# EAGLE library part LME49830 (library ICs)
LME49830 Mono High Fidelity 200 Volt MOSFET Power Amplifier Input Stage with Mute
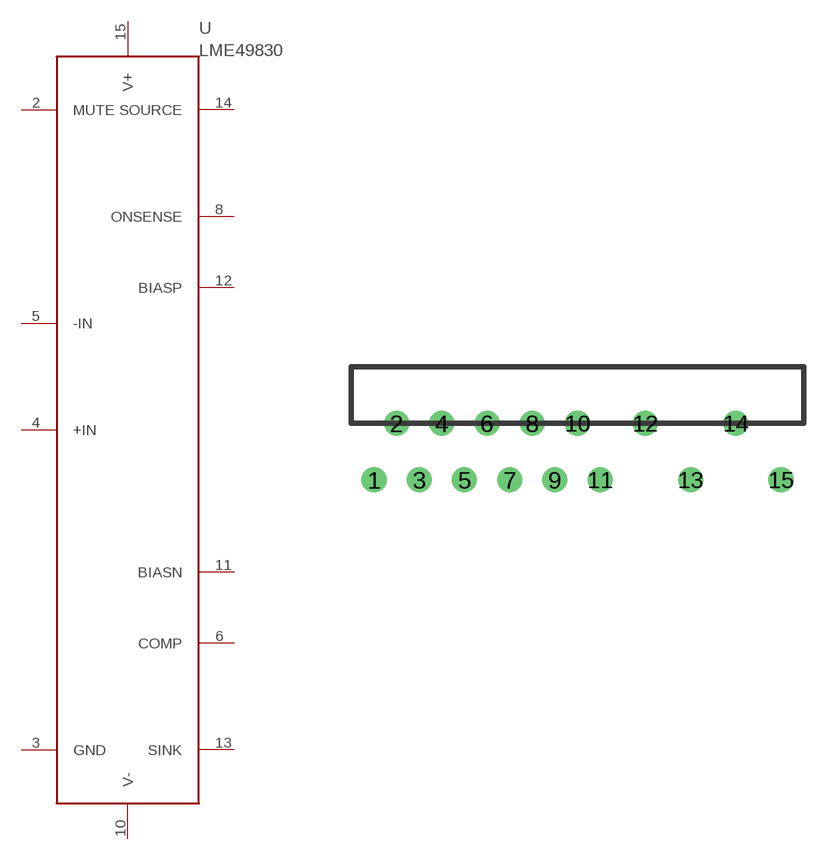
[diagram p7: symbol with the pads of LME498XX; footprint LME498XX]

Designator prefix U

## LME49830TB/NOPB (FARNELL: 2382754)  [LME498XX]
2  MUTE
3  GND
4  +IN
5  -IN
6  COMP
8  ONSENSE
10  V-
11  BIASN
12  BIASP
13  SINK
14  SOURCE
15  V+

## Footprint LME498XX (pad centres in mm)
drill 0.6 pad 1: 1 -9,-2.5; 2 -8,0; 3 -7,-2.5; 4 -6,0; 5 -5,-2.5; 6 -4,0; 7 -3,-2.5; 8 -2,0; 9 -1,-2.5; 10 0,0; 11 1,-2.5; 12 3,0; 13 5,-2.5; 14 7,0; 15 9,-2.5